# EAGLE library part _BASE-SIP-6_ (library KoalaBase)
6 pin single inline pin header, socket, or connector
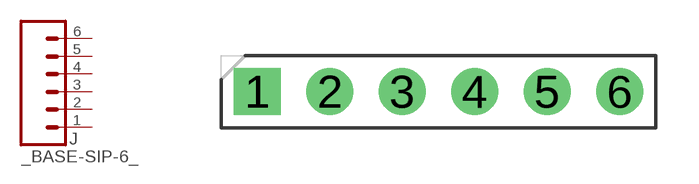
[diagram p13: symbol with the pads of HDRV6W63P254_6X1_1524X254H838_HS; footprint HDRV6W63P254_6X1_1524X254H838_HS]

Designator prefix J

## _BASE-SIP-6_TH-254X6  [HDRV6W63P254_6X1_1524X254H838_HS]
1  1  pas
2  2  pas
3  3  pas
4  4  pas
5  5  pas
6  6  pas

## Footprint HDRV6W63P254_6X1_1524X254H838_HS (pad centres in mm)
Header, Vertical, 2.54 mm pitch; 0.635 mm lead width, 6 pins, 1 row, 6 pins per row, 15.24 mm L X 2.54 mm W X 8.38 mm H body PCB Libraries Packages
drill 1.1 pad 1.65 square: 1 0,0
drill 1.1 pad 1.65: 2 2.54,0; 3 5.08,0; 4 7.62,0; 5 10.16,0; 6 12.7,0